# Altium footprint library SODFL470X250X105L140X150N.PcbLib: 1 footprints
Each footprint in its own frame and in the unit in brackets; x right, y up, seen from the top. Pads: shape width x height; smd on the part's side, far side on the other; paste and mask are expansions set on the pad; w line width, h text height; cw(c..) or ccw(c..) is an arc to the next point about the centre after c.
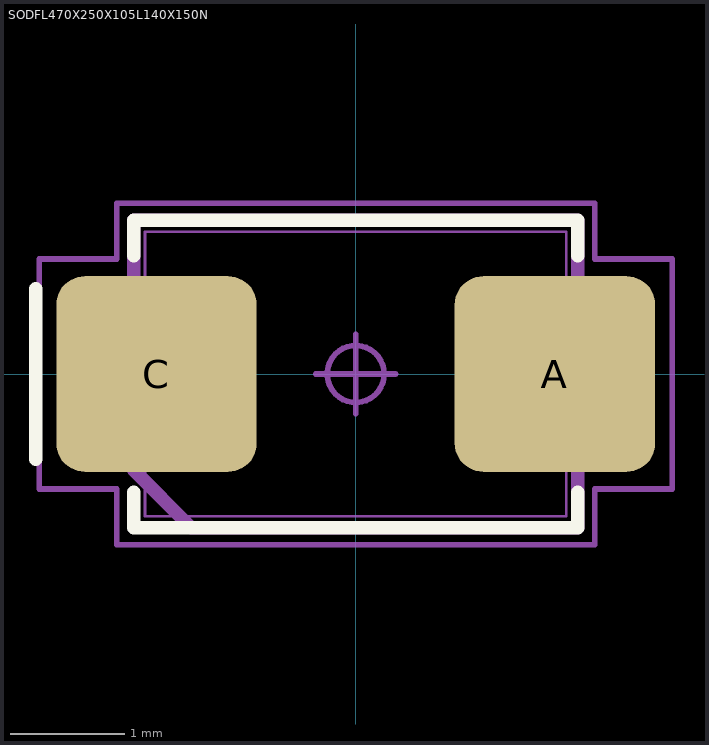
[diagram p0: the footprint, top view; thin cyan lines are the x and y axes]

## SODFL470X250X105L140X150N [mm] "Diode, Small Outline Diode Flat Lead (SODFL); 3.70 mm L X 2.50 mm W X 1.05 mm H body"
height 1.05
pads (2):
  rrect29% 1.76x1.72 smd: A(1.75,0) C(-1.75,0)
Top Overlay:
  lines w0.12: -2.81,-0.75 -2.81,0.75 ; -1.95,-1.04 -1.95,-1.35 1.95,-1.35 1.95,-1.04 ; -1.95,1.04 -1.95,1.35 1.95,1.35 1.95,1.04
Mechanical 3:
  lines w0.12: -1.95,-0.844 -1.444,-1.35 1.95,-1.35 1.95,1.35 -1.95,1.35 -1.95,-0.844
Mechanical 5:
  lines w0.025: -2.35,-0.75 -0.95,-0.75 -0.95,0.75 -2.35,0.75 -2.35,-0.75 ; -1.85,-1.25 -1.85,1.25 1.85,1.25 1.85,-1.25 -1.85,-1.25 ; 0.95,-0.75 0.95,0.75 2.35,0.75 2.35,-0.75 0.95,-0.75
Mechanical 7:
  circle w0.05: c0,0 r0.25
  lines w0.05: -0.35,0 0.35,0 ; 0,-0.35 0,0.35 ; -2.78,-1.01 -2.78,1.01 -2.1,1.01 -2.1,1.5 2.1,1.5 2.1,1.01 2.78,1.01 2.78,-1.01 2.1,-1.01 2.1,-1.5 -2.1,-1.5 -2.1,-1.01 -2.78,-1.01
Mechanical 9:
  text "'.Designator'" at -5.588,-0.381 h1
3D body "SODFL470X250X105L140X150.STEP": height 1.05, standoff 0, extent -2.35,-1.25 2.35,1.25
3D body: height 1.04, standoff 0, extent -2.78,-1.5 2.78,1.5